# Altium footprint library divers.PCBLIB: 26 footprints (part 2 of 2)
Each footprint in its own frame and in the unit in brackets; x right, y up, seen from the top. Pads: shape width x height; smd on the part's side, far side on the other; paste and mask are expansions set on the pad; w line width, h text height; cw(c..) or ccw(c..) is an arc to the next point about the centre after c.
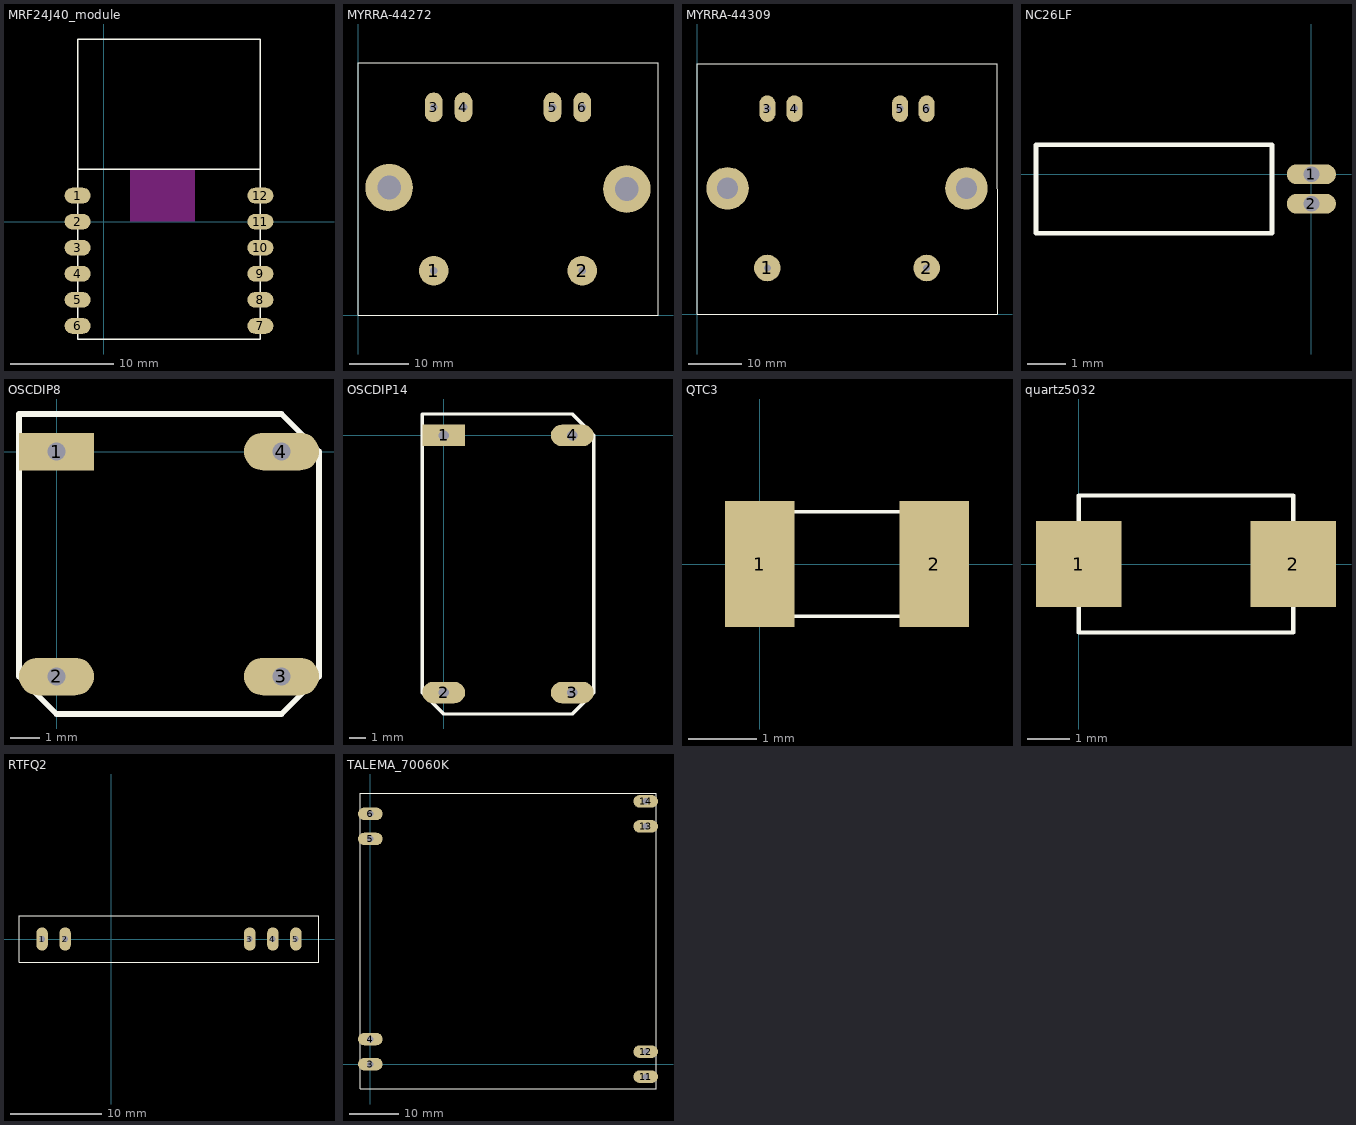
[diagram p1: the footprints below, top view; thin cyan lines are the x and y axes]

## MRF24J40_module [mil]
pads (12):
  oval 100x60 smd: 1(-100,100) 2(-100,0) 3(-100,-100) 4(-100,-200) 5(-100,-300) 6(-100,-400) 7(600,-400) 8(600,-300) 9(600,-200) 10(600,-100) 11(600,0) 12(600,100)
Top Overlay:
  lines w5: -100,200 -100,700 600,700 600,200 ; -100,200 600,200 ; -100,200 -100,-450 600,-450 600,200
Keep-Out Layer:
  rectangle: 100,0 350,200

## MYRRA-44272 [mm] "2x9V 10VA transformer"
height 35
pads (8):
  round 5 hole 1.3: 1(12.75,7.5) 2(37.75,7.5)
  oval 3x5 hole 1.3: 3(12.75,35) 4(17.75,35) 5(32.75,35) 6(37.75,35)
  round 8 hole 4: ""(5.25,21.5) ""(45.25,21.25)
Top Overlay:
  lines w0.1: 0,0 0,42.5 50.5,42.5 50.5,0 0,0

## MYRRA-44309 [mm] "2x9V 10VA transformer"
height 38.75
pads (8):
  round 5 hole 1.3: 1(13.25,8.75) 2(43.25,8.75)
  oval 3x5 hole 1.3: 3(13.25,38.75) 4(18.35,38.75) 5(38.25,38.75) 6(43.25,38.75)
  round 8 hole 4: ""(5.75,23.75) ""(50.75,23.75)
Top Overlay:
  lines w0.1: 0,0 56.5,0 56.5,47.25 0,47.25 0,0

## NC26LF [mil]
pads (2):
  oval 50x20 hole 16: 1(0,0) 2(0,-30)
Top Overlay:
  lines w5: -280,-60 -280,30 -160,30 -40,30 -40,-60 -280,-60

## OSCDIP8 [mil]
pads (4):
  rect 100x50 hole 24: 1(0,0)
  oval 100x50 hole 24: 2(0,-300) 3(300,-300) 4(300,0)
Top Overlay:
  lines w8: -50,-300 -50,50 300,50 350,0 350,-300 300,-350 0,-350 -50,-300

## OSCDIP14 [mil]
pads (4):
  rect 100x50 hole 24: 1(0,0)
  oval 100x50 hole 24: 2(0,-600) 3(300,-600) 4(300,0)
Top Overlay:
  lines w8: -50,-600 0,-650 300,-650 350,-600 350,0 300,50 -50,50 -50,-600

## QTC3 [mil]
pads (2):
  rect 40x72 smd: 1(0,0) 2(100,0)
Top Overlay:
  lines w2: -10,-20 0,-30 100,-30 110,-20 110,20 100,30 0,30 -10,20 -10,-20

## quartz5032 [mm]
pads (2):
  rect 2x2 smd: 1(0,0) 2(5,0)
Top Overlay:
  lines w0.1: 0,-1.6 0,1.6 5,1.6 5,-1.6 0,-1.6

## RTFQ2 [mil]
pads (5):
  oval 50x100 hole 24: 1(-300,0) 2(-200,0) 3(600,0) 4(700,0) 5(800,0)
Top Overlay:
  lines w3.94: -400,-100 -400,100 900,100 900,-100 -400,-100

## TALEMA_70060K [mm]
pads (8):
  oval 5x2.5 hole 1.3: 3(0,0) 4(0,5.08) 5(0,45.72) 6(0,50.8) 11(55.88,-2.54) 12(55.88,2.54) 13(55.88,48.26) 14(55.88,53.34)
Top Overlay:
  lines w0.203: -2,-5 -2,55 58,55 58,-5 -2,-5